# Altium schematic symbol library RPSLib_Inductors.SchLib: 21 symbols
Pins are listed as number, name and electrical type; pins without a type are passive.

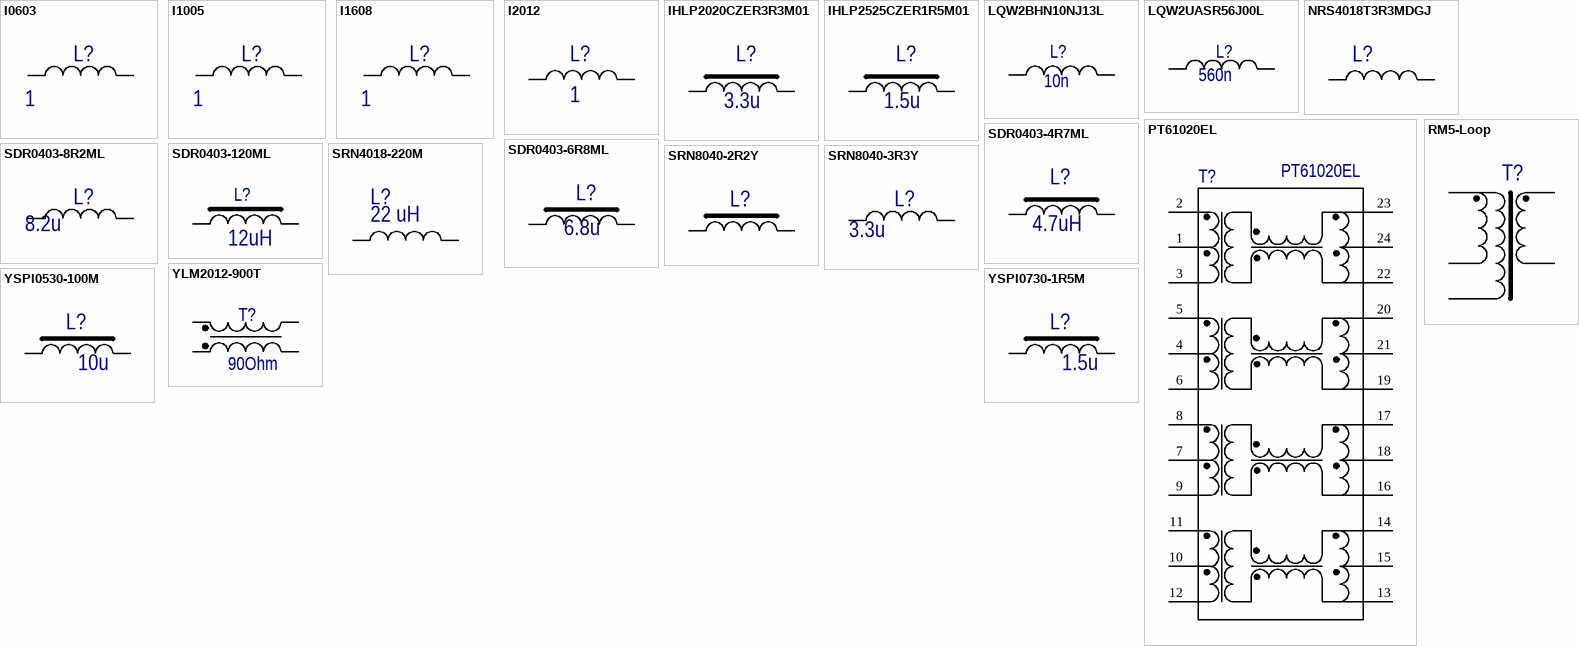
[diagram p0: symbols I0603 to YSPI0730-1R5M]

## I0603
designator L?  value 1  (hidden comment: *)
Катушка 0.6x0.3 мм; Current: *; PartNo: *; Supplier 1: *; Supplier Part Number 1: *; Manufacturer: *; Manufacturer Part Number: *
footprint INDC0603X03N (Chip Inductor, 2-Leads, Body 0.60x0.30mm, IPC Medium Density)
pins: 1, 2

## I1005
designator L?  value 1  (hidden comment: *)
Катушка 1.0x0.5 мм; Tolerance: ±5%; Current: *; PartNo: *; Supplier 1: *; Supplier Part Number 1: *; Manufacturer: *; Manufacturer Part Number: *
footprint INDC1005X06N (Chip Inductor, 2-Leads, Body 1.00x0.50mm, IPC Medium Density)
pins: 1, 2

## I1608
designator L?  value 1  (hidden comment: *)
Катушка 1.6x0.8 мм; Current: *; PartNo: *; Supplier 1: *; Supplier Part Number 1: *; Manufacturer: *; Manufacturer Part Number: *
footprint INDC1608X08N (Chip Inductor, 2-Leads, Body 1.60x0.80mm, IPC Medium Density)
footprint LQW18A (Footprint not found)
pins: 1, 2

## I2012
designator L?  value 1  (hidden comment: *)
Катушка 2.0x1.2 мм 0805; Current: *; PartNo: *; Supplier 1: *; Supplier Part Number 1: *; Manufacturer: *; Manufacturer Part Number: *
footprint INDC2012X11N (Chip Inductor, 2-Leads, Body 2,00x1,25mm, IPC Medium Density)
pins: 1, 2

## IHLP2020CZER3R3M01
designator L?  value 3.3u  (hidden comment: IHLP2020CZER3R3M01)
Fixed Inductors 3.3uH 20%; Manufacturer: Vishay Dale; Core Material: Metal,Composite; DC Resistance (DCR): 54.7mR; Test Frequency: 100kHz; Max DC Current: 8.5A; RMS Current (Irms): 5A; Shielding: Shielded; Self Resonant Frequency: 5MHz; Supplier 1: Digi-Key; Manufacturer Part Number: IHLP2020CZER3R3M01; RoHS: Yes; Category: Fixed Inductors; Stock 1: 66739; Pricing 1: 1=2,39000, 10=2,20800, 100=1,54560, 500=1,25120, 1000=1,14080 (USD); Mount: Surface Mount; Case/Package: 2020; Contact Plating: Tin; Min Operating Temperature: -55°C; Max Operating Temperature: 125°C; Tolerance: 20%; Inductance: 3.3uH; Termination: SMD/SMT; Military Standard: Not; Packaging: Tape and Reel; Package Quantity: 2000; Current Rating: 5A; Saturation Current: 8.5A; Inductance Tolerance: 20%; Length: 5.74mm; Height: 3mm; Depth: 5.43mm; Height - Seated (Max): 0.118inch; Width: 0.204inch; Radiation Hardening: No; Lead Free: Lead Free; REACH SVHC: Unknown; ComponentLink1URL: https://datasheet.ciiva.com/8494/lp20cz01-8494984.pdf?src-supplier=Avnet; ComponentLink1Description: https://datasheet.ciiva.com/8494/lp20cz01-8494984.pdf?src-supplier=Avnet; ComponentLink2URL: https://datasheet.ciiva.com/1051/lp20cz01-1051661.pdf?src-supplier=Digi-Key; ComponentLink2Description: https://datasheet.ciiva.com/1051/lp20cz01-1051661.pdf?src-supplier=Digi-Key; ComponentLink3URL: https://datasheet.ciiva.com/17269/lp20cz01-17269549.pdf?src-supplier=Avnet+Europe; ComponentLink3Description: https://datasheet.ciiva.com/17269/lp20cz01-17269549.pdf?src-supplier=Avnet+Europe; ComponentLink4URL: https://datasheet.ciiva.com/16390/lp20cz01-16390407.pdf?src-supplier=Future+Electronics; ComponentLink4Description: https://datasheet.ciiva.com/16390/lp20cz01-16390407.pdf?src-supplier=Future+Electronics; ComponentLink5URL: https://datasheet.ciiva.com/1051/lp20cz01-1051660.pdf?src-supplier=Digi-Key; ComponentLink5Description: https://datasheet.ciiva.com/1051/lp20cz01-1051660.pdf?src-supplier=Digi-Key; ComponentLink6URL: https://datasheet.ciiva.com/1051/lp20cz01-1051662.pdf?src-supplier=Digi-Key; ComponentLink6Description: https://datasheet.ciiva.com/1051/lp20cz01-1051662.pdf?src-supplier=Digi-Key; Supplier Part Number 1: 541-1269-1-ND
footprint IHLP2020CZ Inductor
pins: 1, 2

## IHLP2525CZER1R5M01
designator L?  value 1.5u  (hidden comment: IHLP2525CZER1R5M01)
Inductor;  High Current;  Ind 1.5uH;  Tol 20%;  Cur 9A;  SMT;  Case 2525;  DCR 14 Ohms; Manufacturer: Vishay Dale; Core Material: Metal,Composite,Ferrite; DC Resistance (DCR): 15mR; Self Resonant Frequency: 5MHz; Shielding: Shielded; Saturation Current: 18A; Test Frequency: 100kHz; Supplier 1: Digi-Key; Manufacturer Part Number: IHLP2525CZER1R5M01; RoHS: Yes; Category: Fixed Inductors; Stock 1: 15292; Pricing 1: 1=2,28000, 10=2,10500, 100=1,47320, 500=1,19256, 1000=1,08733 (USD); Mount: Surface Mount; Case/Package: 2525; Number of Pins: 2; Case Code (Imperial): 2525; Contact Plating: Tin,Matte; Min Operating Temperature: -55°C; Max Operating Temperature: 125°C; Tolerance: 20%; Inductance: 1.5uH; Packaging: Tape and Reel; Inductance Tolerance: 20%; Package Quantity: 2000; Current Rating: 9A; Max DC Current: 18A; Termination: SMD/SMT; RMS Current (Irms): 9A; Military Standard: Not; Length: 7.24mm; Height: 3mm; Depth: 6.72mm; Width: 6.47mm; Height - Seated (Max): 0.118inch; Radiation Hardening: No; REACH SVHC: Unknown; Lead Free: Lead Free; ComponentLink1URL: https://datasheet.ciiva.com/8017/18204-8017264.pdf?src-supplier=Element14; ComponentLink1Description: https://datasheet.ciiva.com/8017/18204-8017264.pdf?src-supplier=Element14; ComponentLink2URL: https://datasheet.ciiva.com/11798/0900766b8102c934-11798389.pdf?src-supplier=RSComponents; ComponentLink2Description: https://datasheet.ciiva.com/11798/0900766b8102c934-11798389.pdf?src-supplier=RSComponents; ComponentLink3URL: https://datasheet.ciiva.com/26914/getdatasheetpartid-111471-26914732.pdf?src-supplier=Verical; ComponentLink3Description: https://datasheet.ciiva.com/26914/getdatasheetpartid-111471-26914732.pdf?src-supplier=Verical; ComponentLink4URL: https://datasheet.ciiva.com/26793/ihlp2525czer1r5m01-26793530.pdf?src-supplier=IIIC; ComponentLink4Description: https://datasheet.ciiva.com/26793/ihlp2525czer1r5m01-26793530.pdf?src-supplier=IIIC; ComponentLink5URL: https://datasheet.ciiva.com/22694/18204-22694486.pdf?src-supplier=Element14; ComponentLink5Description: https://datasheet.ciiva.com/22694/18204-22694486.pdf?src-supplier=Element14; ComponentLink6URL: https://datasheet.ciiva.com/16940/70201586-16940446.pdf?src-supplier=Allied+Electronics; ComponentLink6Description: https://datasheet.ciiva.com/16940/70201586-16940446.pdf?src-supplier=Allied+Electronics; Supplier Part Number 1: 541-1007-1-ND
footprint IHLP2525CZ Inductor
pins: 1, 2

## LQW2BHN10NJ13L
designator L?  Inductance: 10n  (hidden comment: LQW2BHN10NJ13L)
Inductor RF Chip Wirewound 10nH 5% 100MHz 35Q-Factor 1.32A 30mOhm DCR 0805 Embossed T/R; Manufacturer: Murata; Core Material: Non-Magnetic,Ferrite; Q Factor: 35; Shielding: Unshielded; Self Resonant Frequency: 3.3GHz; DC Resistance (DCR): 30mR; Value: 10n; Supplier 1: Digikey; Manufacturer Part Number: LQW2BHN10NJ13L; RoHS: Yes; Category: Fixed Inductors; Stock 1: 1980; Pricing 1: 1=0,41, 10=0,334, 25=0,3088, 50=0,283, 100=0,2495, 250=0,2418, 500=0,21608, 1000=0,17492 (USD); Mount: Surface Mount; Case/Package: 0805; Weight: 0.000317oz; Case Code (Metric): 2012; Case Code (Imperial): 0805; Min Operating Temperature: -40°C; Max Operating Temperature: 85°C; Tolerance: 5%; Max DC Current: 1.32A; Packaging: Tape and Reel; Package Quantity: 2000; Termination: SMD/SMT; Series: LQW2BH_13; Current Rating: 1.32A; Test Frequency: 100MHz; DC Current: 1.32A; Length: 2mm; Width: 0.059inch; Height: 1.7mm; Depth: 1.7mm; Height - Seated (Max): 0.07inch; Radiation Hardening: No; RoHS Compliant: Yes; Military Standard: Not; ComponentLink1URL: https://datasheet.ciiva.com/30490/0900766b81256294-30490160.pdf?src-supplier=Rs; ComponentLink1Description: https://datasheet.ciiva.com/30490/0900766b81256294-30490160.pdf?src-supplier=Rs; ComponentLink2URL: https://datasheet.ciiva.com/8508/l0075s0081lqw2bh-13-8508518.pdf?src-supplier=Avnet; ComponentLink2Description: https://datasheet.ciiva.com/8508/l0075s0081lqw2bh-13-8508518.pdf?src-supplier=Avnet; Supplier Part Number 1: 490-11779-1-ND
footprint LQW2BH (Chip Inductor, 2-Leads, Body 2.0x1.50mm, IPC Medium Density)
pins: 1, 2

## LQW2UASR56J00L
designator L?  value 560n  (hidden comment: LQW2UASR56J00L)
c; Manufacturer: Murata; Core Material: Air; Current Rating: 400mA; Tolerance: 5%; Shielding: Unshielded; Self Resonant Frequency: 415MHz; Inductance: 560nH; DC Resistance (DCR): 1.33R; Test Frequency: 25MHz; Q Factor: 45; Supplier 1: Digi-Key; Manufacturer Part Number: LQW2UASR56J00L; RoHS: Yes; Category: Fixed Inductors; Stock 1: 112384; Pricing 1: 1=0,25000, 10=0,22000, 25=0,19240, 50=0,16500, 100=0,15120, 250=0,13752, 500=0,12924, 1000=0,09900 (USD); Mount: Surface Mount; Case/Package: 1008; Weight: 0.001376oz; Case Code (Metric): 2520; Case Code (Imperial): 1008; Min Operating Temperature: -55°C; Max Operating Temperature: 125°C; Package Quantity: 2000; Packaging: Tape and Reel; Inductance Tolerance: 5%; Resistor Type: Wirewound; Max DC Current: 400mA; Termination: SMD/SMT; Series: LQW2UA; Length: 0.103inch; Width: 0.096inch; Height: 1.83mm; Height - Seated (Max): 0.08inch; Depth: 2.65mm; Radiation Hardening: No; REACH SVHC: No SVHC; RoHS Compliant: Yes; ComponentLink1URL: https://datasheet.ciiva.com/1044/l0075s0080lqw2ua-1044931.pdf?src-supplier=Digi-Key; ComponentLink1Description: https://datasheet.ciiva.com/1044/l0075s0080lqw2ua-1044931.pdf?src-supplier=Digi-Key; ComponentLink2URL: https://datasheet.ciiva.com/1044/l0075s0080lqw2ua-1044932.pdf?src-supplier=Digi-Key; ComponentLink2Description: https://datasheet.ciiva.com/1044/l0075s0080lqw2ua-1044932.pdf?src-supplier=Digi-Key; ComponentLink3URL: https://datasheet.ciiva.com/1044/l0075s0080lqw2ua-1044933.pdf?src-supplier=Digi-Key; ComponentLink3Description: https://datasheet.ciiva.com/1044/l0075s0080lqw2ua-1044933.pdf?src-supplier=Digi-Key; ComponentLink4URL: https://datasheet.ciiva.com/3080/l0075s0080lqw2ua-3080375.pdf?src-supplier=Avnet; ComponentLink4Description: https://datasheet.ciiva.com/3080/l0075s0080lqw2ua-3080375.pdf?src-supplier=Avnet; ComponentLink5URL: https://datasheet.ciiva.com/46394/1668065-46394988.pdf?src-supplier=Element14; ComponentLink5Description: https://datasheet.ciiva.com/46394/1668065-46394988.pdf?src-supplier=Element14; Supplier Part Number 1: 490-5700-1-ND
footprint INDC2624X20N-LQW2 (Chip Inductor, 2-Leads, Body 2,62x2,45mm, IPC Medium Density)
pins: 1, 2

## NRS4018T3R3MDGJ
designator L?  (value not drawn)
FIXED IND 3.3UH 2A 66 MOHM SMD; Manufacturer: Taiyo Yuden; Core Material: Ferrite; Self Resonant Frequency: 45MHz; Tolerance: 20%; Saturation Current: 2.3A; Shielding: Shielded; DC Resistance (DCR): 55mR; Test Frequency: 100kHz; Supplier 1: Digi-Key; Manufacturer Part Number: NRS4018T3R3MDGJ; Stock 1: 40068; Pricing 1: 1=0.29, 10=0.261, 100=0.1793, 500=0.15324, 1000=0.11738 (USD); Mount: Surface Mount; Case/Package: Nonstandard; Number of Pins: 2; Min Operating Temperature: -25°C; Max Operating Temperature: 125°C; Packaging: Tape and Reel; Current Rating: 2A; Inductance: 3.3uh; Composition: Wirewound; Inductance Tolerance: 20%; Package Quantity: 3500; Max DC Current: 2.3A; Termination: SMD/SMT; RMS Current (Irms): 2A; Length: 4mm; Height: 1.8mm; Width: 0.157inch; Height - Seated (Max): 0.071inch; Depth: 4.2mm; Lead Pitch: 2.8mm; Radiation Hardening: No; REACH SVHC: Unknown; Lead Free: Lead Free; Halogen Free: Halogen Free; Supplier Part Number 1: 587-2892-1-ND; РКД Наименование: *
footprint NRS4018 (Fixed inductor 4.0x4.0x1.8 mm)
pins: 1, 2

## PT61020EL
designator T?
Telecom Transformer 1CT:1 0.9Ohm Prim. DCR 0.9Ohm Sec. DCR 24Term. Gull Wing SMD; Manufacturer: Bourns; Turns Ratio: 1:1; Inductance: 350uH; Max DC Current: 8mA; DC Resistance (DCR): 900mR; Insertion Loss: -1.1dB; Return Loss: -12dB; Max Frequency: 100MHz; Self Resonant Frequency: 100kHz; Supplier 1: Digi-Key; Manufacturer Part Number: PT61020EL; RoHS: Yes; Category: Transformers; Stock 1: 2385; Pricing 1: 1=2,37000, 10=1,89600, 25=1,54040, 50=1,50100, 100=1,46150 (USD); Mount: Surface Mount; Number of Pins: 24; Min Operating Temperature: -40°C; Max Operating Temperature: 85°C; Packaging: Tape and Reel; Package Quantity: 1; Lead/Base Style: Gull Wing; Termination: SMD/SMT; Length: 17.62mm; Width: 16mm; Height: 6mm; Depth: 16mm; Radiation Hardening: No; REACH SVHC: No SVHC; ComponentLink1URL: https://datasheet.ciiva.com/22652/1701081-22652762.pdf?src-supplier=Element14; ComponentLink1Description: https://datasheet.ciiva.com/22652/1701081-22652762.pdf?src-supplier=Element14; ComponentLink2URL: https://datasheet.ciiva.com/6434/pt61020-6434954.pdf?src-supplier=Digi-Key; ComponentLink2Description: https://datasheet.ciiva.com/6434/pt61020-6434954.pdf?src-supplier=Digi-Key; ComponentLink3URL: https://datasheet.ciiva.com/24427/pt61020-24427354.pdf?src-supplier=Onlinecomponents.com; ComponentLink3Description: https://datasheet.ciiva.com/24427/pt61020-24427354.pdf?src-supplier=Onlinecomponents.com; ComponentLink4URL: https://datasheet.ciiva.com/3296/pt61020-3296987.pdf?src-supplier=Avnet; ComponentLink4Description: https://datasheet.ciiva.com/3296/pt61020-3296987.pdf?src-supplier=Avnet; ComponentLink5URL: https://datasheet.ciiva.com/6434/pt61020-6434955.pdf?src-supplier=Digi-Key; ComponentLink5Description: https://datasheet.ciiva.com/6434/pt61020-6434955.pdf?src-supplier=Digi-Key; Supplier Part Number 1: PT61020ELCT-ND
footprint PT6102 (LAN Transformer)
pins: 1 TCT1, 2 TD1+, 3 TD1-, 4 TCT2, 5 TD2+, 6 TD2-, 7 TCT3, 8 TD3+, 9 TD3-, 10 TCT4, 11 TD4+, 12 TD4-, 13 MX4-, 14 MX4+, 15 MCT4, 16 MX3-, 17 MX3+, 18 MCT3, 19 MX2-, 20 MX2+, 21 MCT2, 22 MX1-, 23 MX1+, 24 MCT1

## RM5-Loop
designator T?  (value not drawn)
Manufacturer: *; Manufacturer Part Number: *; Supplier Part Number 1: *; Supplier 1: *
footprint RM5-6 pin
footprint RM5-5 pin
pins: 1, 2, 3, 5, 6
1 alternate drawing of the same symbol

## SDR0403-4R7ML
designator L?  Inductance: 4.7uH  (hidden comment: SDR0403-4R7ML)
Inductor;  Filter;  Ind 4.7uH;  Tol 20%;  Cur 1.7A;  SMT;  Case 0403;  DCR 0.094 Ohms; Manufacturer: Bourns; Core Material: Ferrite; DC Resistance (DCR): 94mR; Self Resonant Frequency: 50MHz; Q Factor: 28; Saturation Current: 2.6A; Shielding: Unshielded; Test Frequency: 1kHz; Supplier 1: Digi-Key; Manufacturer Part Number: SDR0403-4R7ML; RoHS: Yes; Category: Fixed Inductors; Stock 1: 8303; Pricing 1: 1=0,57000, 10=0,50000, 25=0,46480, 50=0,39320, 100=0,35750, 250=0,33604, 500=0,30030, 1000=0,24310 (USD); Mount: Surface Mount; Case/Package: Nonstandard; Number of Pins: 2; Min Operating Temperature: -40°C; Max Operating Temperature: 125°C; Tolerance: 20%; Max DC Current: 1.7A; Packaging: Tape and Reel; Inductance Tolerance: 20%; Package Quantity: 2000; Current Rating: 1.7A; Resistance: 94MR; Termination: SMD/SMT; Resistor Type: Wirewound; DC Current: 1.7A; RMS Current (Irms): 1.7A; Series: SDR0403; Sample Rate (Hz): 1kHz; Diameter: 4.5mm; Length: 4.5mm; Width: 3.2mm; Height: 3.5mm; Depth: 4.3mm; Height - Seated (Max): 0.126inch; Radiation Hardening: No; REACH SVHC: No SVHC; Military Standard: Not; RoHS Compliant: Yes; ComponentLink1URL: https://datasheet.ciiva.com/11803/0900766b80f2b590-11803096.pdf?src-supplier=RSComponents; ComponentLink1Description: https://datasheet.ciiva.com/11803/0900766b80f2b590-11803096.pdf?src-supplier=RSComponents; ComponentLink2URL: https://datasheet.ciiva.com/27097/2023871-27097514.pdf?src-supplier=Jameco; ComponentLink2Description: https://datasheet.ciiva.com/27097/2023871-27097514.pdf?src-supplier=Jameco; ComponentLink3URL: https://datasheet.ciiva.com/22697/1577668-22697289.pdf?src-supplier=Element14; ComponentLink3Description: https://datasheet.ciiva.com/22697/1577668-22697289.pdf?src-supplier=Element14; ComponentLink4URL: https://datasheet.ciiva.com/15225/getdatasheetpartid-62121-15225402.pdf?src-supplier=Verical; ComponentLink4Description: https://datasheet.ciiva.com/15225/getdatasheetpartid-62121-15225402.pdf?src-supplier=Verical; ComponentLink5URL: https://datasheet.ciiva.com/17247/sdr0403-17247307.pdf?src-supplier=Avnet+Europe; ComponentLink5Description: https://datasheet.ciiva.com/17247/sdr0403-17247307.pdf?src-supplier=Avnet+Europe; ComponentLink6URL: https://datasheet.ciiva.com/1049/sdr0403-1049133.pdf?src-supplier=Digi-Key; ComponentLink6Description: https://datasheet.ciiva.com/1049/sdr0403-1049133.pdf?src-supplier=Digi-Key; ComponentLink7URL: https://datasheet.ciiva.com/1049/sdr0403-1049134.pdf?src-supplier=Digi-Key; ComponentLink7Description: https://datasheet.ciiva.com/1049/sdr0403-1049134.pdf?src-supplier=Digi-Key; ComponentLink8URL: https://datasheet.ciiva.com/8516/sdr0403-8516158.pdf?src-supplier=Avnet; ComponentLink8Description: https://datasheet.ciiva.com/8516/sdr0403-8516158.pdf?src-supplier=Avnet; ComponentLink9URL: https://datasheet.ciiva.com/1049/sdr0403-1049135.pdf?src-supplier=Digi-Key; ComponentLink9Description: https://datasheet.ciiva.com/1049/sdr0403-1049135.pdf?src-supplier=Digi-Key; ComponentLink10URL: https://datasheet.ciiva.com/17112/70153447-17112335.pdf?src-supplier=Allied+Electronics; ComponentLink10Description: https://datasheet.ciiva.com/17112/70153447-17112335.pdf?src-supplier=Allied+Electronics; Supplier Part Number 1: SDR0403-4R7MLCT-ND
footprint SDR0403-3.2 (Bourns SDR0403 Inductor)
pins: 1, 2

## SDR0403-6R8ML
designator L?  Inductance: 6.8u  (hidden comment: *)
FIXED IND 6.8UH 1.41A 120 MOHM; Manufacturer: Bourns; Manufacturer Part Number: SDR0403-6R8ML; Core Material: Ferrite; Tolerance: 20%; DC Resistance (DCR): 120mR; Saturation Current: 2.1A; Shielding: Unshielded; Q Factor: 28; Self Resonant Frequency: 40MHz; Test Frequency: 1kHz; Value: 6.8u; Supplier 1: Digi-Key; Stock 1: 3849; Pricing 1: 1=0,60000, 10=0,52300, 100=0,37380, 500=0,31396, 1000=0,25415 (USD); RoHS: Yes; Mount: Surface Mount; Case/Package: Nonstandard; Number of Pins: 2; Min Operating Temperature: -40°C; Max Operating Temperature: 125°C; Max DC Current: 1.41A; Package Quantity: 2000; Current Rating: 1.41A; Packaging: Tape and Reel; Inductance Tolerance: 20%; Resistance: 120MR; Composition: Wirewound; Termination: SMD/SMT; DC Current: 1.41A; Military Standard: Not; RMS Current (Irms): 1.41A; Diameter: 4.5mm; Length: 0.177inch; Height: 3.2mm; Depth: 4.3mm; Width: 0.157inch; Height - Seated (Max): 0.126inch; Radiation Hardening: No; REACH SVHC: No SVHC; ComponentLink1URL: https://datasheet.ciiva.com/3868/41632003s8817166n1506-3868184.pdf?src-supplier=Arrow; ComponentLink1Description: https://datasheet.ciiva.com/3868/41632003s8817166n1506-3868184.pdf?src-supplier=Arrow; ComponentLink2URL: https://datasheet.ciiva.com/1049/sdr0403-1049153.pdf?src-supplier=Digi-Key; ComponentLink2Description: https://datasheet.ciiva.com/1049/sdr0403-1049153.pdf?src-supplier=Digi-Key; ComponentLink3URL: https://datasheet.ciiva.com/1049/sdr0403-1049154.pdf?src-supplier=Digi-Key; ComponentLink3Description: https://datasheet.ciiva.com/1049/sdr0403-1049154.pdf?src-supplier=Digi-Key; ComponentLink4URL: https://datasheet.ciiva.com/1049/sdr0403-1049155.pdf?src-supplier=Digi-Key; ComponentLink4Description: https://datasheet.ciiva.com/1049/sdr0403-1049155.pdf?src-supplier=Digi-Key; ComponentLink5URL: https://datasheet.ciiva.com/8515/sdr0403-8515909.pdf?src-supplier=Avnet; ComponentLink5Description: https://datasheet.ciiva.com/8515/sdr0403-8515909.pdf?src-supplier=Avnet; ComponentLink6URL: https://datasheet.ciiva.com/8517/sdr0403-8517749.pdf?src-supplier=Avnet; ComponentLink6Description: https://datasheet.ciiva.com/8517/sdr0403-8517749.pdf?src-supplier=Avnet; ComponentLink7URL: https://datasheet.ciiva.com/48956/70153447-48956565.pdf?src-supplier=Allied+Electronics; ComponentLink7Description: https://datasheet.ciiva.com/48956/70153447-48956565.pdf?src-supplier=Allied+Electronics; ComponentLink8URL: https://datasheet.ciiva.com/17286/sdr0403-17286507.pdf?src-supplier=Avnet+Europe; ComponentLink8Description: https://datasheet.ciiva.com/17286/sdr0403-17286507.pdf?src-supplier=Avnet+Europe; ComponentLink9URL: https://datasheet.ciiva.com/30189/sdr0403-30189980.pdf?src-supplier=Onlinecomponents.com; ComponentLink9Description: https://datasheet.ciiva.com/30189/sdr0403-30189980.pdf?src-supplier=Onlinecomponents.com; ComponentLink10URL: https://datasheet.ciiva.com/7849/1577668-7849631.pdf?src-supplier=Element14; ComponentLink10Description: https://datasheet.ciiva.com/7849/1577668-7849631.pdf?src-supplier=Element14; ComponentLink11URL: https://datasheet.ciiva.com/48691/001056087-da-01-en-leis-indukt-sdr0403-6r8ml-6-8uh-1-41a-48691893.pdf?src-supplier=Conrad; ComponentLink11Description: https://datasheet.ciiva.com/48691/001056087-da-01-en-leis-indukt-sdr0403-6r8ml-6-8uh-1-41a-48691893.pdf?src-supplier=Conrad; Supplier Part Number 1: SDR0403-6R8MLCT-ND
footprint SDR0403-3.2 (Bourns SDR0403 Inductor)
pins: 1, 2

## SDR0403-8R2ML
designator L?  value 8.2u  (hidden comment: *)
Bourns SDR0403 Series Wire-wound SMD Inductor with a Ferrite Core, 8.2 H 20% Wire-Wound 1.26A Idc; Manufacturer Part Number: SDR0403-8R2ML; Self Resonant Frequency: 36MHz; Q Factor: 28; Saturation Current: 1.9A; Shielding: Unshielded; Resistance: 47MR; DC Resistance (DCR): 130mR; Test Frequency: 1kHz; Supplier 1: Digi-Key; Manufacturer: Bourns; Stock 1: 2199; Pricing 1: 1=0,60000, 10=0,52300, 100=0,37380, 500=0,31396, 1000=0,25415 (USD); RoHS: Yes; Mount: Surface Mount; Case/Package: Nonstandard; Core Material: Ferrite; Min Operating Temperature: -40°C; Max Operating Temperature: 125°C; Package Quantity: 2000; Packaging: Tape and Reel; Tolerance: 20%; Inductance Tolerance: 20%; Current Rating: 1.26A; Inductance: 8.2u; Max DC Current: 1.26A; Termination: SMD/SMT; Composition: Wirewound; DC Current: 1.26A; Military Standard: Not; RMS Current (Irms): 1.26A; Diameter: 4.5mm; Length: 0.177inch; Height: 3.2mm; Width: 0.157inch; Height - Seated (Max): 0.126inch; Depth: 4.3mm; Radiation Hardening: No; REACH SVHC: No SVHC; ComponentLink1URL: https://datasheet.ciiva.com/1069/sdr0403-1069831.pdf?src-supplier=Digi-Key; ComponentLink1Description: https://datasheet.ciiva.com/1069/sdr0403-1069831.pdf?src-supplier=Digi-Key; ComponentLink2URL: https://datasheet.ciiva.com/22715/1577668-22715415.pdf?src-supplier=Element14; ComponentLink2Description: https://datasheet.ciiva.com/22715/1577668-22715415.pdf?src-supplier=Element14; ComponentLink3URL: https://datasheet.ciiva.com/1069/sdr0403-1069832.pdf?src-supplier=Digi-Key; ComponentLink3Description: https://datasheet.ciiva.com/1069/sdr0403-1069832.pdf?src-supplier=Digi-Key; ComponentLink4URL: https://datasheet.ciiva.com/1069/sdr0403-1069833.pdf?src-supplier=Digi-Key; ComponentLink4Description: https://datasheet.ciiva.com/1069/sdr0403-1069833.pdf?src-supplier=Digi-Key; ComponentLink5URL: https://datasheet.ciiva.com/48955/70153447-48955724.pdf?src-supplier=Allied+Electronics; ComponentLink5Description: https://datasheet.ciiva.com/48955/70153447-48955724.pdf?src-supplier=Allied+Electronics; ComponentLink6URL: https://datasheet.ciiva.com/48691/001056089-da-01-en-leis-indukt-sdr0403-8r2ml-8-2uh-1-26a-48691895.pdf?src-supplier=Conrad; ComponentLink6Description: https://datasheet.ciiva.com/48691/001056089-da-01-en-leis-indukt-sdr0403-8r2ml-8-2uh-1-26a-48691895.pdf?src-supplier=Conrad; Supplier Part Number 1: SDR0403-8R2MLCT-ND
footprint SDR0403-3.2 (Bourns SDR0403 Inductor)
pins: 1, 2

## SDR0403-120ML
designator L?  Inductance: 12uH  (hidden comment: SDR0403-120ML)
Fixed Inductors 12uH 20% SMD 0403; Manufacturer: Bourns; Core Material: Ferrite; DC Resistance (DCR): 210mR; Max DC Current: 1.05A; Self Resonant Frequency: 30MHz; Q Factor: 28; Saturation Current: 1.6A; Shielding: Unshielded; Test Frequency: 1kHz; Supplier 1: Digi-Key; Manufacturer Part Number: SDR0403-120ML; RoHS: Yes; Category: Fixed Inductors; Stock 1: 19342; Pricing 1: 1=0,57000, 10=0,50000, 25=0,46480, 50=0,39320, 100=0,35750, 250=0,33604, 500=0,30030, 1000=0,24310 (USD); Mount: Surface Mount; Case/Package: Nonstandard; Min Operating Temperature: -40°C; Max Operating Temperature: 125°C; Tolerance: 20%; Packaging: Tape and Reel; Inductance Tolerance: 20%; Package Quantity: 2000; Current Rating: 1.05A; Resistance: 210MR; Resistor Type: Wirewound; Termination: SMD/SMT; DC Current: 1.05A; RMS Current (Irms): 1.05A; Diameter: 4.5mm; Length: 0.177inch; Width: 0.157inch; Height: 3.2mm; Depth: 4.3mm; Height - Seated (Max): 0.126inch; Radiation Hardening: No; REACH SVHC: No SVHC; Military Standard: Not; ComponentLink1URL: https://datasheet.ciiva.com/11802/0900766b80f2b590-11802704.pdf?src-supplier=RSComponents; ComponentLink1Description: https://datasheet.ciiva.com/11802/0900766b80f2b590-11802704.pdf?src-supplier=RSComponents; ComponentLink2URL: https://datasheet.ciiva.com/8516/sdr0403-8516071.pdf?src-supplier=Avnet; ComponentLink2Description: https://datasheet.ciiva.com/8516/sdr0403-8516071.pdf?src-supplier=Avnet; ComponentLink3URL: https://datasheet.ciiva.com/22715/1577668-22715399.pdf?src-supplier=Element14; ComponentLink3Description: https://datasheet.ciiva.com/22715/1577668-22715399.pdf?src-supplier=Element14; ComponentLink4URL: https://datasheet.ciiva.com/1049/sdr0403-1049176.pdf?src-supplier=Digi-Key; ComponentLink4Description: https://datasheet.ciiva.com/1049/sdr0403-1049176.pdf?src-supplier=Digi-Key; ComponentLink5URL: https://datasheet.ciiva.com/1049/sdr0403-1049177.pdf?src-supplier=Digi-Key; ComponentLink5Description: https://datasheet.ciiva.com/1049/sdr0403-1049177.pdf?src-supplier=Digi-Key; ComponentLink6URL: https://datasheet.ciiva.com/48956/70153447-48956700.pdf?src-supplier=Allied+Electronics; ComponentLink6Description: https://datasheet.ciiva.com/48956/70153447-48956700.pdf?src-supplier=Allied+Electronics; ComponentLink7URL: https://datasheet.ciiva.com/48690/001056067-da-01-en-leis-indukt-sdr0403-120ml-12uh-1-05a-48690955.pdf?src-supplier=Conrad; ComponentLink7Description: https://datasheet.ciiva.com/48690/001056067-da-01-en-leis-indukt-sdr0403-120ml-12uh-1-05a-48690955.pdf?src-supplier=Conrad; Supplier Part Number 1: SDR0403-120MLCT-ND
footprint SDR0403-3.2 (Bourns SDR0403 Inductor)
pins: 1, 2

## SRN4018-220M
designator L?  value 22 uH  (hidden comment: SRN4018-220M)
FIXED IND 22UH 900MA 348 MOHM; Manufacturer: Bourns; Current: 0.9 A; Core Material: Ferrite; Material: Steel; Tolerance: 20%; Shielding: Shielded; DC Resistance (DCR): 348mR; Self Resonant Frequency: 15MHz; Saturation Current: 950mA; Test Frequency: 100kHz; PartNo: SRN4018-220M; Supplier 1: Digi-Key; Supplier Part Number 1: SRN4018-220MCT-ND; Manufacturer Part Number: SRN4018-220M; Stock 1: 133818; Pricing 1: 1=0.44, 10=0.382, 100=0.2731, 500=0.22942, 1000=0.18573 (USD); Mount: Surface Mount; Case/Package: Nonstandard; Number of Pins: 2; Min Operating Temperature: -25°C; Max Operating Temperature: 120°C; Package Quantity: 3000; Packaging: Tape and Reel; Inductance: 22uh; Max DC Current: 900mA; Termination: SMD/SMT; Current Rating: 900mA; Inductance Tolerance: 20%; Composition: Wirewound; DC Current: 900mA; Military Standard: Not; RMS Current (Irms): 900mA; Length: 4mm; Height: 1.8mm; Width: 4mm; Depth: 4.2mm; Height - Seated (Max): 0.071inch; Radiation Hardening: No; REACH SVHC: No SVHC; РКД Наименование: *
footprint SRN4018 (Inductors)
pins: 1, 2

## SRN8040-2R2Y
designator L?  (value not drawn)
BOURNS - SRN8040-2R2Y - INDUCTOR, 2.2UH, 6.3A, 30%, SEMISHIELDED; Core Material: Ferrite; Material: Steel; DC Resistance (DCR): 13mR; Saturation Current: 7.4A; Self Resonant Frequency: 40MHz; Test Frequency: 100kHz; Supplier 1: Digi-Key; Manufacturer: Bourns; Manufacturer Part Number: SRN8040-2R2Y; RoHS: Yes; Category: Fixed Inductors; Stock 1: 4478; Pricing 1: 1=0,74000, 10=0,64400, 100=0,46000, 500=0,38640 (USD); Mount: Surface Mount; Case/Package: Nonstandard; Number of Pins: 2; Weight: 0.028607oz; Contact Plating: Tin; Min Operating Temperature: -40°C; Max Operating Temperature: 125°C; Tolerance: 30%; Inductance: 2.2uH; Max DC Current: 6.3A; Package Quantity: 1000; Packaging: Tape and Reel; Shielding: Shielded; Inductance Tolerance: 30%; Current Rating: 6.3A; Termination: SMD/SMT; Composition: Wirewound; DC Current: 6.3A; Military Standard: Not; RMS Current (Irms): 6.3A; Length: 8mm; Height: 4mm; Width: 8mm; Height - Seated (Max): 0.157inch; Depth: 8.3mm; REACH SVHC: No SVHC; ComponentLink1URL: https://datasheet.ciiva.com/11802/0900766b80fe1f3f-11802605.pdf?src-supplier=RSComponents; ComponentLink1Description: https://datasheet.ciiva.com/11802/0900766b80fe1f3f-11802605.pdf?src-supplier=RSComponents; ComponentLink2URL: https://datasheet.ciiva.com/28678/srn8040-28678249.pdf?src-supplier=Element14; ComponentLink2Description: https://datasheet.ciiva.com/28678/srn8040-28678249.pdf?src-supplier=Element14; ComponentLink3URL: https://datasheet.ciiva.com/8515/srn8040-8515258.pdf?src-supplier=Avnet; ComponentLink3Description: https://datasheet.ciiva.com/8515/srn8040-8515258.pdf?src-supplier=Avnet; ComponentLink4URL: https://datasheet.ciiva.com/7847/1865628-7847915.pdf?src-supplier=Element14; ComponentLink4Description: https://datasheet.ciiva.com/7847/1865628-7847915.pdf?src-supplier=Element14; ComponentLink5URL: https://datasheet.ciiva.com/1049/srn8040-1049453.pdf?src-supplier=Digi-Key; ComponentLink5Description: https://datasheet.ciiva.com/1049/srn8040-1049453.pdf?src-supplier=Digi-Key; ComponentLink6URL: https://datasheet.ciiva.com/1049/srn8040-1049454.pdf?src-supplier=Digi-Key; ComponentLink6Description: https://datasheet.ciiva.com/1049/srn8040-1049454.pdf?src-supplier=Digi-Key; ComponentLink7URL: https://datasheet.ciiva.com/1049/srn8040-1049455.pdf?src-supplier=Digi-Key; ComponentLink7Description: https://datasheet.ciiva.com/1049/srn8040-1049455.pdf?src-supplier=Digi-Key; ComponentLink8URL: https://datasheet.ciiva.com/17284/srn8040-17284783.pdf?src-supplier=Avnet+Europe; ComponentLink8Description: https://datasheet.ciiva.com/17284/srn8040-17284783.pdf?src-supplier=Avnet+Europe; ComponentLink9URL: https://datasheet.ciiva.com/48691/001056460-da-01-en-mag-abg-leist-ind-srn8040-2r2y-2-2uh-smd-48691836.pdf?src-supplier=Conrad; ComponentLink9Description: https://datasheet.ciiva.com/48691/001056460-da-01-en-mag-abg-leist-ind-srn8040-2r2y-2-2uh-smd-48691836.pdf?src-supplier=Conrad; Supplier Part Number 1: SRN8040-2R2YCT-ND
footprint SRN8040-4.0 (Bourns SRN8040 Inductor)
pins: 1, 2

## SRN8040-3R3Y
designator L?  value 3.3u  (hidden comment: *)
FIXED IND 3.3UH 5.6A 21 MOHM SMD; Manufacturer: Bourns; Manufacturer Part Number: SRN8040-3R3Y; Core Material: Ferrite; Material: Steel; Saturation Current: 5.5A; Tolerance: 30%; Shielding: Shielded; DC Resistance (DCR): 21mR; Self Resonant Frequency: 34MHz; Test Frequency: 100kHz; Supplier 1: Digi-Key; Stock 1: 24102; Pricing 1: 1=0,74000, 10=0,64400, 100=0,46000, 500=0,38640 (USD); RoHS: Yes; Mount: Surface Mount; Case/Package: Nonstandard; Number of Pins: 2; Min Operating Temperature: -40°C; Max Operating Temperature: 125°C; Package Quantity: 1000; Current Rating: 5.6A; Packaging: Tape and Reel; Inductance: 3.3u; Inductance Tolerance: 30%; Composition: Wirewound; Max DC Current: 5.6A; Termination: SMD/SMT; RMS Current (Irms): 5.6A; DC Current: 5.6A; Military Standard: Not; Length: 8mm; Height: 4mm; Width: 8mm; Height - Seated (Max): 0.157inch; Depth: 8.3mm; REACH SVHC: No SVHC; ComponentLink1URL: https://datasheet.ciiva.com/1049/srn8040-1049456.pdf?src-supplier=Digi-Key; ComponentLink1Description: https://datasheet.ciiva.com/1049/srn8040-1049456.pdf?src-supplier=Digi-Key; ComponentLink2URL: https://datasheet.ciiva.com/11802/0900766b80fe1f3f-11802600.pdf?src-supplier=RSComponents; ComponentLink2Description: https://datasheet.ciiva.com/11802/0900766b80fe1f3f-11802600.pdf?src-supplier=RSComponents; ComponentLink3URL: https://datasheet.ciiva.com/1049/srn8040-1049458.pdf?src-supplier=Digi-Key; ComponentLink3Description: https://datasheet.ciiva.com/1049/srn8040-1049458.pdf?src-supplier=Digi-Key; ComponentLink4URL: https://datasheet.ciiva.com/1049/srn8040-1049457.pdf?src-supplier=Digi-Key; ComponentLink4Description: https://datasheet.ciiva.com/1049/srn8040-1049457.pdf?src-supplier=Digi-Key; ComponentLink5URL: https://datasheet.ciiva.com/28678/1904951-28678250.pdf?src-supplier=Element14; ComponentLink5Description: https://datasheet.ciiva.com/28678/1904951-28678250.pdf?src-supplier=Element14; ComponentLink6URL: https://datasheet.ciiva.com/7847/1790247-7847916.pdf?src-supplier=Element14; ComponentLink6Description: https://datasheet.ciiva.com/7847/1790247-7847916.pdf?src-supplier=Element14; Supplier Part Number 1: SRN8040-3R3YCT-ND
footprint SRN8040-4.0 (Bourns SRN8040 Inductor)
pins: 1, 2

## YLM2012-900T
designator T?  value 90Ohm  (hidden comment: YLM2012-900T)
SMD,2x1.2x1.2mm Common Mode Filters ROHS 90 Ohm; Manufacturer: YJYCOIN; Manufacturer Part Number: YLM2012-900T; Supplier 1: LCSC; Supplier Part Number 1: C917646
footprint YLM2021 (SMD Common Mode Choke 2.0x1.2x1.2mm)
pins: 1, 2, 3, 4

## YSPI0530-100M
designator L?  value 10u  (hidden comment: YSPI0530-100M)
2.5A 10uH ±20% 115mΩ SMD,5.4x5.2x3mm Power Inductors ROHS; Manufacturer: YJYCOIN; Manufacturer Part Number: YSPI0530-100M; Supplier 1: LCSC; Supplier Part Number 1: C351099; ComponentLink1Description: Datasheet; ComponentLink1URL: https://datasheet.lcsc.com/lcsc/2006231717_YJYCOIN-YSPI0530-100M_C351099.pdf; ComponentLink2Description: LCSC link; ComponentLink2URL: https://lcsc.com/product-detail/Power-Inductors_YJYCOIN-YSPI0530-100M_C351099.html
footprint YSPI0530 (SMD Power inductor 5.4x5.2x3.0mm)
pins: 1, 2

## YSPI0730-1R5M
designator L?  value 1.5u  (hidden comment: YSPI0730-1R5M)
9.5A 1.5uH ±20% 10.5mΩ SMD,7.3x6.6x3mm Power Inductors ROHS; Manufacturer: YJYCOIN; Manufacturer Part Number: YSPI0730-1R5M; Supplier 1: LCSC; Supplier Part Number 1: C351114; ComponentLink1Description: Datasheet; ComponentLink1URL: https://datasheet.lcsc.com/lcsc/2006231718_YJYCOIN-YSPI0730-1R5M_C351114.pdf; ComponentLink2Description: LCSC link; ComponentLink2URL: https://lcsc.com/product-detail/Power-Inductors_YJYCOIN-YSPI0730-1R5M_C351114.html
footprint YSPI0730 (SMD Power inductor 7.3x6.6x3.0mm)
pins: 1, 2